# EAGLE library part INA134UA (library nw2s)
AUDIO DIFFERENTIAL LINE RECEIVERS
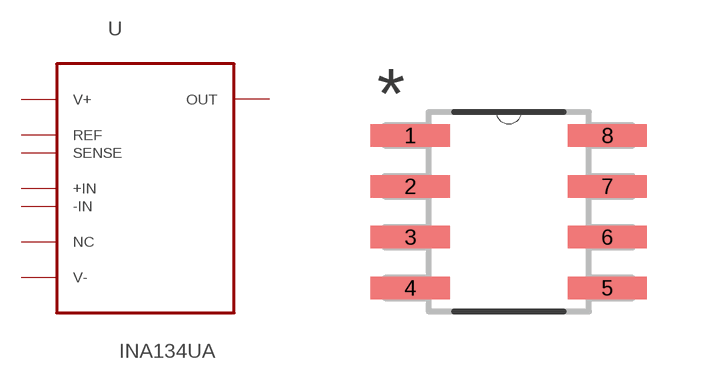
[diagram p3: symbol with the pads of SOIC127P600X175-8N; footprint SOIC127P600X175-8N]

Designator prefix U

## INA134UA (MPN: INA134UA; OC_FARNELL: -; OC_NEWARK: 80K5904; PACKAGE: SOIC-8; SUPPLIER: TI)  [SOIC127P600X175-8N]
1  REF  pas
2  -IN  in
3  +IN  in
4  V-  pwr
5  SENSE  pas
6  OUT  out
7  V+  pwr
8  NC  nc

## Footprint SOIC127P600X175-8N (pad centres in mm)
smd 1.981 x 0.559: 1 -2.464,1.905; 2 -2.464,0.635; 3 -2.464,-0.635; 4 -2.464,-1.905; 5 2.464,-1.905; 6 2.464,-0.635; 7 2.464,0.635; 8 2.464,1.905